# Altium schematic symbol library 74LVC1G08 (AND gate).SchLib: 1 symbol
Pins are listed as number, name and electrical type; pins without a type are passive.

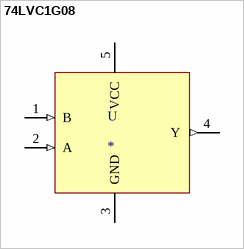
[diagram p0: symbol 74LVC1G08]

## 74LVC1G08
designator U
farnell: 1631684
footprint SOT23127P600-8N
pins: 1 B (in), 2 A (in), 3 GND (power), 4 Y (out), 5 VCC (power)